# EAGLE library part RJ45_TH_VERT (library 3D_MIG_Controller)
Jack Modular Connector 8p8c (RJ45, Ethernet) Vertical Shielded
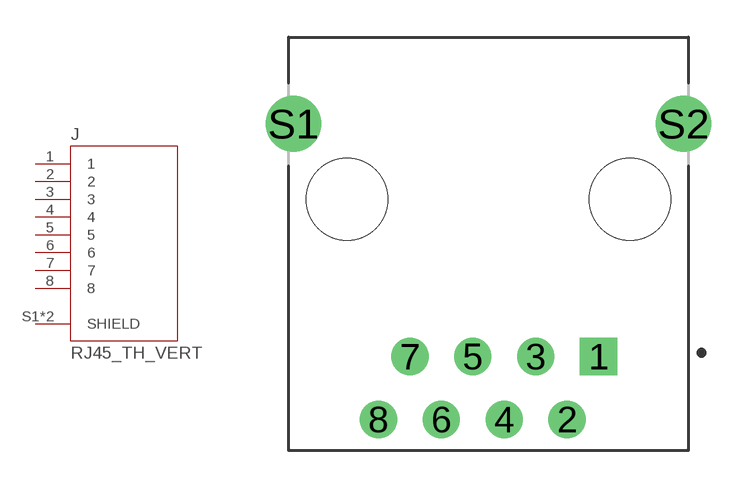
[diagram p71: symbol with the pads of ASSMANN_A-2014-2S-4-N-R; footprint ASSMANN_A-2014-2S-4-N-R]

Designator prefix J

## RJ45_TH_VERT (DESCRIPTION: Jack Modular Connector 8p8c (RJ45, Ethernet) Vertical Shielded; DIGI-KEY_PART_NUMBER: AE10399-ND; MF: Assmann WSW Components; MP: A-2014-2S-4-N-R; PACKAGE: None)  [ASSMANN_A-2014-2S-4-N-R]
1  1  pas
2  2  pas
3  3  pas
4  4  pas
5  5  pas
6  6  pas
7  7  pas
8  8  pas
S1  SHIELD  pas
S2  SHIELD  pas

## Footprint ASSMANN_A-2014-2S-4-N-R (pad centres in mm)
drill 1 square: 1 4.445,-6.35
drill 1: 2 3.175,-8.89; 3 1.905,-6.35; 4 0.635,-8.89; 5 -0.635,-6.35; 6 -1.905,-8.89; 7 -3.175,-6.35; 8 -4.445,-8.89
drill 1.5: S1 -7.875,3.05; S2 7.875,3.05
hole 3.3 at -5.715,0
hole 3.3 at 5.715,0